# EAGLE library part WINSTAR16X4DSPL_12 (library Dmitry)
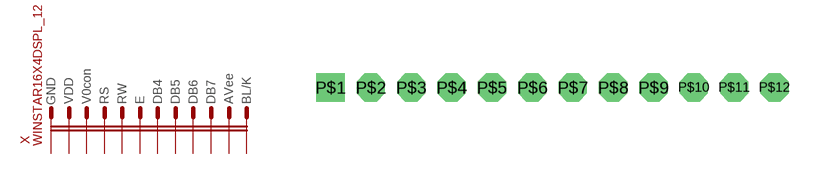
[diagram p0: symbol with the pads of WINSTAR16X4_12; footprint WINSTAR16X4_12]

Designator prefix X

## WINSTAR16X4DSPL_12  [WINSTAR16X4_12]
P$1  GND
P$2  VDD
P$3  V0CON
P$4  RS
P$5  RW
P$6  E
P$7  DB4
P$8  DB5
P$9  DB6
P$10  DB7
P$11  AVEE
P$12  KB/L

## Footprint WINSTAR16X4_12 (pad centres in mm)
drill 1 pad 1.778 square: P$1 -13.97,1.27
drill 1 pad 1.778 octagon: P$2 -11.43,1.27; P$3 -8.89,1.27; P$4 -6.35,1.27; P$5 -3.81,1.27; P$6 -1.27,1.27; P$7 1.27,1.27; P$8 3.81,1.27; P$9 6.35,1.27; P$10 8.89,1.27; P$11 11.43,1.27; P$12 13.97,1.27